# Altium footprint library OSCCC320X250X60L90X110N.PcbLib: 1 footprints
Each footprint in its own frame and in the unit in brackets; x right, y up, seen from the top. Pads: shape width x height; smd on the part's side, far side on the other; paste and mask are expansions set on the pad; w line width, h text height; cw(c..) or ccw(c..) is an arc to the next point about the centre after c.
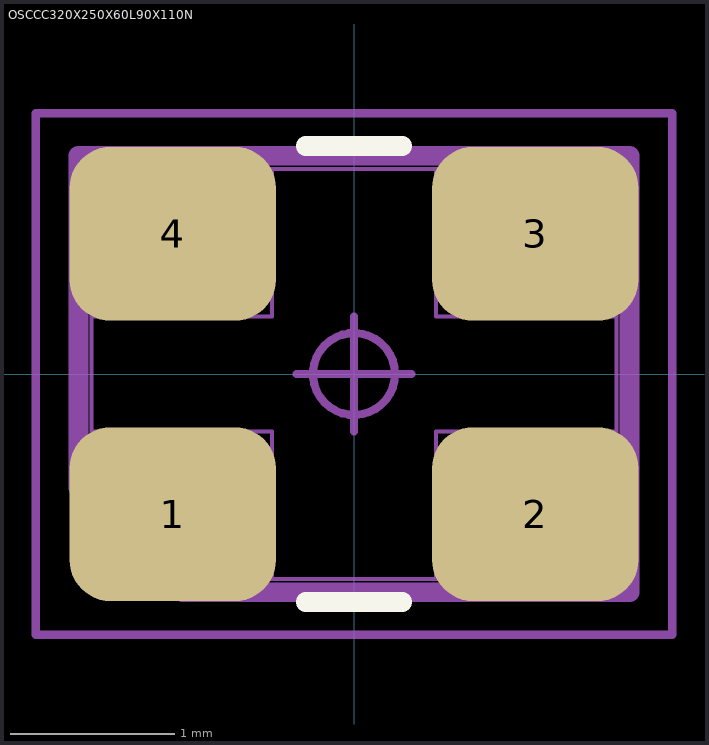
[diagram p0: the footprint, top view; thin cyan lines are the x and y axes]

## OSCCC320X250X60L90X110N [mm] "Oscillator, Corner Concave; 3.20 mm L X 2.50 mm W X 0.60 mm H body"
height 0.6
pads (4):
  rrect47% 1.26x1.06 smd: 1(-1.105,-0.855) 2(1.105,-0.855) 3(1.105,0.855) 4(-1.105,0.855)
Top Overlay:
  lines w0.12: -0.295,-1.39 0.295,-1.39 ; -0.295,1.39 0.295,1.39
Mechanical 3:
  lines w0.12: -1.68,-0.695 -1.045,-1.33 1.68,-1.33 1.68,1.33 -1.68,1.33 -1.68,-0.695
Mechanical 5:
  lines w0.025: -1.6,-1.25 -0.5,-1.25 -0.5,-0.35 -1.6,-0.35 -1.6,-1.25 ; -1.6,-1.25 -1.6,1.25 ; -1.6,-1.25 1.6,-1.25 ; -1.6,1.25 -1.6,0.35 -0.5,0.35 -0.5,1.25 -1.6,1.25 ; -1.6,1.25 1.6,1.25 ; 1.6,-1.25 1.6,-0.35 0.5,-0.35 0.5,-1.25 1.6,-1.25 ; 1.6,-1.25 1.6,1.25 ; 1.6,1.25 0.5,1.25 0.5,0.35 1.6,0.35 1.6,1.25
Mechanical 7:
  circle w0.05: c0,0 r0.25
  lines w0.05: -0.35,0 0.35,0 ; 0,-0.35 0,0.35 ; -1.94,-1.59 -1.94,1.59 1.94,1.59 1.94,-1.59 -1.94,-1.59
Mechanical 9:
  text "'.Designator'" at -5.175,-0.2 h1
3D body "OSCCC320X250X60L90X110.STEP": height 0.6, standoff 0, extent -1.6,-1.25 1.6,1.25
3D body: height 1.04, standoff 0, extent -1.94,-1.59 1.94,1.59